# Altium schematic symbol library VapeixS_LIB.SchLib: 20 symbols
Pins are listed as number, name and electrical type; pins without a type are passive.

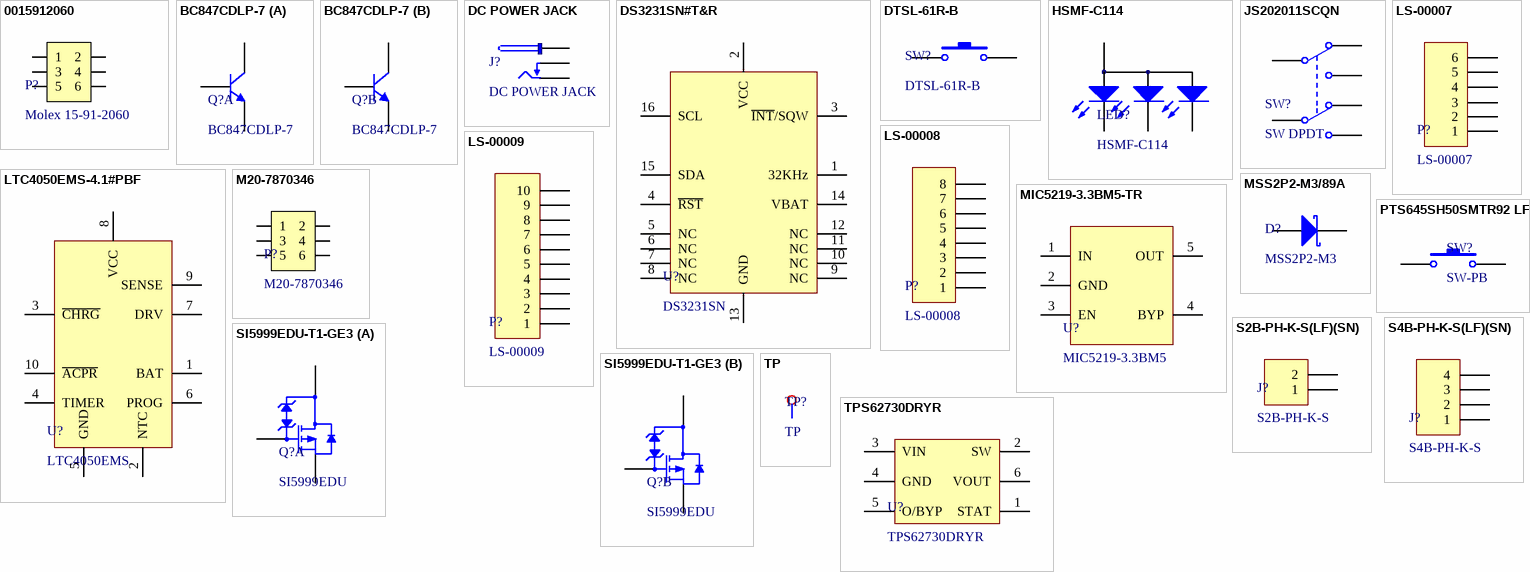
[diagram p0: symbols 0015912060 to TPS62730DRYR]

## 0015912060
designator P?, comment Molex 15-91-2060
CONN HEADER 6POS .100" VERT TIN; Manufacturer: Molex, LLC; Manufacturer Part Number: 0015912060; Connector Type: Header, Unshrouded, Breakaway; Number of Positions: 6; Number of Positions Loaded: All; Pitch: 0.100" (2.54mm); Supplier 1: Digi-Key; RoHS: RoHS Compliant; Category: Connectors, Interconnects; Stock 1: 10294; Pricing 1: 1=0.43, 10=0.4, 25=0.36, 50=0.32, 100=0.3066, 250=0.27992, 500=0.2666, 1000=0.21995, 2500=0.19995 (USD); Packaging: Bulk; Contact Type: Male Pin; Number of Rows: 2; Row Spacing: 0.100" (2.54mm); Contact Mating Length: 0.240" (6.10mm); Mounting Type: Surface Mount; Termination: Solder; Fastening Type: -; Features: -; Contact Finish: Tin; Contact Finish Thickness: 150µin (3.81µm); Color: Black; ComponentLink1URL: http://www.molex.com/pdm_docs/sd/015912060_sd.pdf; ComponentLink1Description: http://www.molex.com/pdm_docs/sd/015912060_sd.pdf
footprint Molex 15-91-2060
pins: 1, 2, 3 (power), 4 (power), 5 (power), 6 (power)

## BC847CDLP-7
designator Q?
TRANS 2NPN 45V 0.1A 6DFN; Manufacturer: Diodes Incorporated; Transistor Type: 2 NPN (Dual); Current - Collector (Ic) (Max): 100mA; Vce Saturation (Max) @ Ib, Ic: 600mV @ 5mA, 100mA; Current - Collector Cutoff (Max): 15nA; DC Current Gain (hFE) (Min) @ Ic, Vce: 420 @ 2mA, 5V; Power - Max: 350mW; Frequency - Transition: 100MHz; Supplier 1: Digi-Key; Manufacturer Part Number: BC847CDLP-7; RoHS: RoHS Compliant; Category: Discrete Semiconductor Products; Stock 1: 11845; Pricing 1: 1=0.36, 10=0.29, 100=0.198, 500=0.1482, 1000=0.111 (USD); Packaging: Cut Tape (CT); Voltage - Collector Emitter Breakdown (Max): 45V; Mounting Type: Surface Mount; Package / Case: 6-SMD, No Lead; Supplier Device Package: 6-DFN1310H4 (1.0x1.3); ComponentLink1URL: http://www.diodes.com/_files/datasheets/ds30817.pdf; ComponentLink1Description: http://www.diodes.com/_files/datasheets/ds30817.pdf
footprint BC847CDLP-7 (TRANS 2NPN 45V 0.1A 6DFN)
part A pins: 1 E1, 2 B1, 3 C1
part B pins: 4 E2, 5 B2, 6 C2

## DC POWER JACK
designator J?
Adafruit Accessories 2.1mm DC Barrel Jack Breadboard Friendly; Manufacturer Part Number: 373; Supplier 1: Mouser; Manufacturer: Adafruit; RoHS: RoHS Compliant; Category: Adafruit Accessories; Stock 1: 0; Pricing 1: 1=0.950, 10=0.860 (USD); Product: Connectors; Type: DC Power Connectors; Brand: Adafruit; RoHS - Mouser: Y; Minimum Order Quantity: 1; Reeling: False
footprint DC POWER JACK (Adafruit Accessories 2.1mm DC Barrel Jack Breadboard Friendly)
pins: 1, 2, 3

## DS3231SN#T&R
designator U?, comment DS3231SN
IC RTC CLK/CALENDAR I2C 16-SOIC; Manufacturer: Maxim Integrated; Manufacturer Part Number: DS3231SN#T&R; Time Format: HH:MM:SS (12/24 hr); Date Format: YY-MM-DD-dd; Interface: I²C, 2-Wire Serial; Voltage - Supply: 2.3 V ~ 5.5 V; Current - Timekeeping (Max): 110µA ~ 170µA @ 3.63V ~ 5.5V; Supplier 1: Digi-Key; RoHS: RoHS Compliant; Category: Integrated Circuits (ICs); Stock 1: 4351; Pricing 1: 1=9.97, 10=9.41, 25=7.5276, 50=7.1512, 100=6.5867, 250=6.24792, 500=6.02208 (USD); Packaging: Cut Tape (CT); Type: Clock/Calendar; Features: Alarm, Leap Year, Square Wave Output, TCXO/Crystal; Memory Size: -; Voltage - Supply, Battery: 2.3 V ~ 5.5 V; Operating Temperature: -40°C ~ 85°C; Mounting Type: Surface Mount; Package / Case: 16-SOIC (0.295", 7.50mm Width); Supplier Device Package: 16-SOIC; ComponentLink1URL: http://datasheets.maximintegrated.com/en/ds/DS3231-DS3231S.pdf; ComponentLink1Description: http://datasheets.maximintegrated.com/en/ds/DS3231-DS3231S.pdf
footprint DS3231SN (IC RTC CLK/CALENDAR I2C 16-SOIC)
pins: 1 32KHz, 2 VCC, 3 ~{INT}/SQW, 4 ~{RST}, 5 NC, 6 NC, 7 NC, 8 NC, 9 NC, 10 NC, 11 NC, 12 NC, 13 GND, 14 VBAT, 15 SDA, 16 SCL

## DTSL-61R-B
designator SW?
MULTICOMP - DTSL-61R-B - TACTILE SWITCH, SPNO, SMD; Supplier 1: Farnell; Manufacturer: MULTICOMP; Manufacturer Part Number: DTSL-61R-B; RoHS: YES; Stock 1: 15029; Pricing 1: 5=0.477, 50=0.399, 100=0.366, 250=0.314, 500=0.254, 2000=0.228, 4000=0.2, 20000=0.18 (GBP); ComponentLink1URL: http://www.farnell.com/cad/44709.pdf; ComponentLink1Description: http://www.farnell.com/cad/44709.pdf; ComponentLink2URL: http://www.farnell.com/datasheets/1685039.pdf; ComponentLink2Description: http://www.farnell.com/datasheets/1685039.pdf
pins: 1, 2

## HSMF-C114
designator LED?
LED RGB DIFFUSED 0606 SMD; Manufacturer: Broadcom Limited; Color: Red, Green, Blue (RGB); Lens Color: White; Millicandela Rating: 85mcd Red, 180mcd Green, 70mcd Blue; Lens Style/Size: Rectangle with Flat Top, 1.10mm x 1.50mm; Voltage - Forward (Vf) (Typ): 1.9V Red, 3.4V Green, 3.4V Blue; Current - Test: 20mA Red, 20mA Green, 20mA Blue; Viewing Angle: 140° Red, 145° Green, 145° Blue; Wavelength - Dominant: 626nm Red, 525nm Green, 470nm Blue; Wavelength - Peak: 637nm Red, 523nm Green, 468nm Blue; Supplier 1: Digi-Key; Manufacturer Part Number: HSMF-C114; RoHS: RoHS Compliant; Category: Optoelectronics; Stock 1: 11787; Pricing 1: 1=2.03, 10=1.62, 25=1.2376, 100=1.125, 250=0.99, 500=0.8325, 1000=0.72 (USD); Packaging: Digi-Reel®; Lens Transparency: Diffused; Mounting Type: Surface Mount; Features: -; Package / Case: 0606 (1616 Metric); Supplier Device Package: Chip LED; Size / Dimension: 1.60mm L x 1.50mm W; Height (Max): 0.35mm; ComponentLink1URL: http://www.avagotech.com/docs/AV02-2451EN; ComponentLink1Description: http://www.avagotech.com/docs/AV02-2451EN
footprint HSMF-C114 (LED RGB DIFFUSED 0606 SMD)
pins: 1 ANODE, 2 RED, 3 GREEN, 4 BLUE

## JS202011SCQN
designator SW?, comment SW DPDT
SWITCH SLIDE DPDT 300MA 6V; Manufacturer: C&K Components; Manufacturer Part Number: JS202011SCQN; Contact Timing: Not Specified; Switch Function: On-On; Current Rating: 300mA (DC); Actuator Type: Standard; Actuator Length: 2.00mm; Actuator Material: Polyamide (PA46), Nylon 4/6; Electrical Life: 5,000 Cycles; Supplier 1: Digi-Key; RoHS: RoHS Compliant; Category: Switches; Stock 1: 26140; Pricing 1: 1=0.46, 10=0.441, 25=0.4316, 50=0.3858, 100=0.3674, 250=0.3582, 500=0.3031 (USD); Packaging: Cut Tape (CT); Circuit: DPDT; Voltage Rating - AC: -; Voltage Rating - DC: 6V; Contact Material: Copper Alloy; Contact Finish: Silver; Mounting Type: Surface Mount; Termination Style: Gull Wing; Features: -; Switch Travel: 2.00mm; Operating Temperature: -40°C ~ 85°C; Mechanical Life: -; Operating Force: -; ComponentLink1URL: http://www.ck-components.com/14398/js_7jan16.pdf/; ComponentLink1Description: http://www.ck-components.com/14398/js_7jan16.pdf/
footprint JS202011SCQN (SWITCH SLIDE DPDT 300MA 6V)
pins: 1 NC1, 2 COMMON1, 3 NO1, 4 NC2, 5 COMMON2, 6 NO2

## LS-00007
designator P?
Arduino Female Stackable Header - 6 pin(4 pack); Manufacturer: OSEPP; Supplier 1: Allied; Manufacturer Part Number: LS-00007; RoHS: No; Stock 1: 27; Pricing 1: 1=1.7500, 10=1.5700, 25=1.4100 (USD); ComponentLink1URL: http://www.alliedelec.com/images/products/datasheets/bm/OSEPP/70662540.pdf; ComponentLink1Description: http://www.alliedelec.com/images/products/datasheets/bm/OSEPP/70662540.pdf; ComponentLink2URL: http://www.alliedelec.com/osepp-ls-00007/70662540/; ComponentLink2Description: http://www.alliedelec.com/osepp-ls-00007/70662540/
footprint LS-00007 (Arduino Female Stackable Header - 6 pin(4 pack))
pins: 1, 2, 3, 4, 5, 6

## LS-00008
designator P?
Arduino Femal e Stackable Headers - 8 pin (4 pack); Manufacturer: OSEPP; Supplier 1: Allied; Manufacturer Part Number: LS-00008; RoHS: No; Stock 1: 3; Pricing 1: 1=1.7500, 10=1.5700, 25=1.4000 (USD); ComponentLink1URL: http:; ComponentLink1Description: http:; ComponentLink2URL: http://www.alliedelec.com/osepp-ls-00008/70662541/; ComponentLink2Description: http://www.alliedelec.com/osepp-ls-00008/70662541/
footprint LS-00008 (Arduino Femal e Stackable Headers - 8 pin (4 pack))
pins: 1, 2, 3, 4, 5, 6, 7, 8

## LS-00009
designator P?
Arduino Female Stackable Header - 10 pin (4 pack); Manufacturer: OSEPP; Supplier 1: Allied; Manufacturer Part Number: LS-00009; RoHS: No; Stock 1: 150; Pricing 1: 1=1.7500, 10=1.5700, 25=1.4000 (USD); ComponentLink1URL: http:; ComponentLink1Description: http:; ComponentLink2URL: http://www.alliedelec.com/osepp-ls-00009/70662542/; ComponentLink2Description: http://www.alliedelec.com/osepp-ls-00009/70662542/
footprint LS-00009 (Arduino Female Stackable Header - 10 pin (4 pack))
pins: 1, 2, 3, 4, 5, 6, 7, 8, 9, 10

## LTC4050EMS-4.1#PBF
designator U?, comment LTC4050EMS
IC BATT CHRG CNTRL LI-ION 10MSOP; Manufacturer: Linear Technology; Manufacturer Part Number: LTC4050EMS-4.1#PBF; Function: Charge Management; Voltage - Supply: 4.5 V ~ 10 V; Supplier 1: Digi-Key; RoHS: RoHS Compliant; Category: Integrated Circuits (ICs); Stock 1: 1327; Pricing 1: 1=4.77, 25=3.1696, 100=2.3869 (USD); Packaging: Tube; Battery Chemistry: Li-Ion; Operating Temperature: -40°C ~ 85°C; Mounting Type: Surface Mount; Package / Case: 10-TFSOP, 10-MSOP (0.118", 3.00mm Width); Supplier Device Package: 10-MSOP; ComponentLink1URL: http://www.linear.com/docs/3321; ComponentLink1Description: http://www.linear.com/docs/3321
footprint LTC4050EMS (IC BATT CHRG CNTRL LI-ION 10MSOP)
pins: 1 BAT, 2 NTC, 3 ~{CHRG}, 4 TIMER, 5 GND, 6 PROG, 7 DRV, 8 VCC, 9 SENSE, 10 ~{ACPR}

## M20-7870346
designator P?
Headers & Wire Housings 03+03 DIL SMT SKT BOTTOM ENTRY TIN; Manufacturer: Harwin; Number of Positions: 6 Position; Pitch: 2.54 mm; Supplier 1: Mouser; Manufacturer Part Number: M20-7870346; RoHS: RoHS Compliant; Category: Headers & Wire Housings; Stock 1: 507; Pricing 1: 1=0.730, 10=0.584, 100=0.508, 500=0.457, 1000=0.406, 2500=0.368, 5000=0.356, 10000=0.338, 25000=0.325 (USD); Number of Rows: 2 Row; Packaging: Tube; Product: Headers; Series: M20; Termination Style: SMD; Type: Socket Assembly; Brand: Harwin; Mounting Style: -; Product Category: 2.54mm M20 SMT Connectors; Standard Pack Qty: 73; RoHS - Mouser: Y; Minimum Order Quantity: 1; Reeling: False; ComponentLink1URL: http://www.mouser.com/ds/2/181/M20-787-350754.pdf; ComponentLink1Description: http://www.mouser.com/ds/2/181/M20-787-350754.pdf
footprint CLH-103-F-D-BE-K-TR (SAMTEC - CLH-103-F-D-BE-K-TR - SOCKET, 2.54MM, SMT, 6WAY)
pins: 1, 2, 3 (power), 4 (power), 5 (power), 6 (power)

## MIC5219-3.3BM5-TR
designator U?, comment MIC5219-3.3BM5
IC REG LDO 3.3V 0.5A SOT23-5; Manufacturer: Microchip Technology; Manufacturer Part Number: MIC5219-3.3BM5-TR; Regulator Topology: Positive Fixed; Current - Output: 500mA; Voltage - Dropout (Typical): 0.35V @ 500mA; Number of Regulators: 1; Voltage - Input: Up to 12V; Supplier 1: Digi-Key; RoHS: RoHS Compliant; Category: Integrated Circuits (ICs); Stock 1: 0; Pricing 1: 3000=0.598 (USD); Packaging: Tape & Reel (TR); Voltage - Output: 3.3V; Current - Limit (Min): -; Operating Temperature: -40°C ~ 125°C; Mounting Type: Surface Mount; Package / Case: SC-74A, SOT-753; Supplier Device Package: SOT-23-5; ComponentLink1URL: http://www.microchip.com/mymicrochip/filehandler.aspx?ddocname=en579712; ComponentLink1Description: http://www.microchip.com/mymicrochip/filehandler.aspx?ddocname=en579712
footprint MIC5219-3.3BM5 (IC REG LDO 3.3V 0.5A SOT23-5)
pins: 1 IN, 2 GND, 3 EN, 4 BYP, 5 OUT

## MSS2P2-M3/89A
designator D?, comment MSS2P2-M3
DIODE SCHOTTKY 20V 2A MICROSMP; Manufacturer: Vishay Semiconductor Diodes Division; Manufacturer Part Number: MSS2P2-M3/89A; Voltage - Forward (Vf) (Max) @ If: 600mV @ 2A; Speed: Fast Recovery =< 500ns, > 200mA (Io); Current - Reverse Leakage @ Vr: 250µA @ 20V; Capacitance @ Vr, F: 65pF @ 4V, 1MHz; Supplier 1: Digi-Key; RoHS: RoHS Compliant; Category: Discrete Semiconductor Products; Stock 1: 3961; Pricing 1: 1=0.37, 10=0.274, 100=0.1552, 500=0.1029, 1000=0.07892 (USD); Packaging: Digi-Reel®; Diode Type: Schottky; Voltage - DC Reverse (Vr) (Max): 20V; Current - Average Rectified (Io): 2A; Reverse Recovery Time (trr): -; Mounting Type: Surface Mount; Package / Case: MicroSMP; Supplier Device Package: MicroSMP; Operating Temperature - Junction: -55°C ~ 150°C; ComponentLink1URL: http://www.vishay.com/docs/89054/mss2p3.pdf; ComponentLink1Description: http://www.vishay.com/docs/89054/mss2p3.pdf
footprint MSS2P2-M3 (DIODE SCHOTTKY 20V 2A MICROSMP)
pins: 1 A, 2 K

## PTS645SH50SMTR92 LFS
designator SW?, comment SW-PB
SWITCH TACTILE SPST-NO 0.05A 12V; Manufacturer: C&K Components; Manufacturer Part Number: PTS645SH50SMTR92 LFS; Switch Function: Off-Mom; Contact Rating @ Voltage: 0.05A @ 12VDC; Actuator Type: Standard; Actuator Height off PCB, from Pins: 5.00mm; Actuator Orientation: Top Actuated; Outline: 6.00mm x 6.00mm; Illumination: Non-Illuminated; Operating Force: 200gf; Actuator Material: Polyamide (PA66), Nylon 6/6; Mechanical Life: 100,000 Cycles; Supplier 1: Digi-Key; RoHS: RoHS Compliant; Category: Switches; Stock 1: 54599; Pricing 1: 1=0.29, 10=0.281, 25=0.2712, 50=0.2614, 100=0.2468, 250=0.23232, 500=0.22264 (USD); Packaging: Digi-Reel®; Circuit: SPST-NO; Mounting Type: Surface Mount; Termination Style: Gull Wing; Illumination Voltage (Nominal): -; Illumination Type, Color: -; Ingress Protection: -; Features: -; Switch Travel: -; Operating Temperature: -20°C ~ 60°C; ComponentLink1URL: http://www.ck-components.com/14409/pts645_7jan16.pdf/; ComponentLink1Description: http://www.ck-components.com/14409/pts645_7jan16.pdf/
footprint PTS645SH50SMTR92 (SWITCH TACTILE SPST-NO 0.05A 12V)
pins: 1, 2

## S2B-PH-K-S(LF)(SN)
designator J?, comment S2B-PH-K-S
CONN HEADER PH SIDE 2POS 2MM; Manufacturer: JST Sales America Inc.; Manufacturer Part Number: S2B-PH-K-S(LF)(SN); Connector Type: Header, Shrouded; Number of Positions: 2; Number of Positions Loaded: All; Pitch: 0.079" (2.00mm); Supplier 1: Digi-Key; RoHS: RoHS Compliant; Category: Connectors, Interconnects; Stock 1: 71254; Pricing 1: 1=0.17, 10=0.161, 25=0.1196, 50=0.1026, 100=0.0991, 250=0.08544, 500=0.08202, 1000=0.07177, 2500=0.06494 (USD); Packaging: Bulk; Contact Type: Male Pin; Number of Rows: 1; Row Spacing: -; Contact Mating Length: 0.130" (3.30mm); Mounting Type: Through Hole, Right Angle; Termination: Press-Fit, Solder; Fastening Type: Detent Lock; Features: -; Contact Finish: Tin; Contact Finish Thickness: -; Color: Natural; ComponentLink1URL: http://www.jst-mfg.com/product/pdf/eng/ePH.pdf; ComponentLink1Description: http://www.jst-mfg.com/product/pdf/eng/ePH.pdf
footprint S2B-PH-K-S (CONN HEADER PH SIDE 2POS 2MM)
pins: 1, 2

## S4B-PH-K-S(LF)(SN)
designator J?, comment S4B-PH-K-S
CONN HEADER PH SIDE 4POS 2MM; Manufacturer: JST Sales America Inc.; Manufacturer Part Number: S4B-PH-K-S(LF)(SN); Connector Type: Header, Shrouded; Number of Positions: 4; Number of Positions Loaded: All; Pitch: 0.079" (2.00mm); Supplier 1: Digi-Key; RoHS: RoHS Compliant; Category: Connectors, Interconnects; Stock 1: 41576; Pricing 1: 1=0.22, 10=0.208, 25=0.1772, 50=0.155, 100=0.144, 250=0.1274, 500=0.12186, 1000=0.0997, 2500=0.09139 (USD); Packaging: Bulk; Contact Type: Male Pin; Number of Rows: 1; Row Spacing: -; Contact Mating Length: 0.130" (3.30mm); Mounting Type: Through Hole, Right Angle; Termination: Press-Fit, Solder; Fastening Type: Detent Lock; Features: -; Contact Finish: Tin; Contact Finish Thickness: -; Color: Natural; ComponentLink1URL: http://www.jst-mfg.com/product/pdf/eng/ePH.pdf; ComponentLink1Description: http://www.jst-mfg.com/product/pdf/eng/ePH.pdf
footprint S4B-PH-K-S (CONN HEADER PH SIDE 4POS 2MM)
pins: 1, 2, 3, 4

## SI5999EDU-T1-GE3
designator Q?, comment SI5999EDU
MOSFET 2P-CH 20V 6A POWERPAK; Manufacturer: Vishay Siliconix; Manufacturer Part Number: SI5999EDU-T1-GE3; FET Type: 2 P-Channel (Dual); FET Feature: Logic Level Gate; Rds On (Max) @ Id, Vgs: 59 mOhm @ 3.5A, 4.5V; Vgs(th) (Max) @ Id: 1.5V @ 250µA; Gate Charge (Qg) @ Vgs: 20nC @ 10V; Input Capacitance (Ciss) @ Vds: 496pF @ 10V; Power - Max: 10.4W; Supplier 1: Digi-Key; RoHS: RoHS Compliant; Category: Discrete Semiconductor Products; Stock 1: 2994; Pricing 1: 1=0.58, 10=0.51, 100=0.39, 500=0.309, 1000=0.2475 (USD); Packaging: Cut Tape (CT); Drain to Source Voltage (Vdss): 20V; Current - Continuous Drain (Id) @ 25°C: 6A; Operating Temperature: -55°C ~ 150°C (TJ); Mounting Type: Surface Mount; Package / Case: PowerPAK® ChipFET™ Dual; Supplier Device Package: PowerPAK® ChipFet Dual; ComponentLink1URL: http://www.vishay.com/docs/67019/si5999ed.pdf; ComponentLink1Description: http://www.vishay.com/docs/67019/si5999ed.pdf
footprint SI5999EDU (MOSFET 2P-CH 20V 6A POWERPAK)
part A pins: 1 S1, 2 G1, 7 D1
part B pins: 3 S2, 4 G2, 5 D2

## TP
designator TP?
TEST POINT
footprint TP (Test Point)
pins: 1 TP

## TPS62730DRYR
designator U?
IC DCDC CONV STP-DN SYNC LP 6SON; Manufacturer: Texas Instruments; Voltage - Input: 1.9 V ~ 3.9 V; Number of Outputs: 1; Voltage - Output: 2.1V; Supplier 1: Digi-Key; Manufacturer Part Number: TPS62730DRYR; RoHS: RoHS Compliant; Category: Integrated Circuits (ICs); Stock 1: 16899; Pricing 1: 1=1.59, 10=1.423, 100=1.1092, 500=0.91728, 1000=0.585 (USD); Packaging: Digi-Reel®; Applications: Converter, Bluetooth (BLT); Operating Temperature: -40°C ~ 85°C; Mounting Type: Surface Mount; Package / Case: 6-UFDFN; Supplier Device Package: 6-SON (1.45x1); ComponentLink1URL: http://www.ti.com/lit/ds/symlink/tps62730.pdf; ComponentLink1Description: http://www.ti.com/lit/ds/symlink/tps62730.pdf
footprint TPS62730DRYR (IC DCDC CONV STP-DN SYNC LP 6SON)
pins: 1 STAT, 2 SW, 3 VIN, 4 GND, 5 O/BYP, 6 VOUT